# EAGLE library part TPS2546RTER (library Deegou_IC)
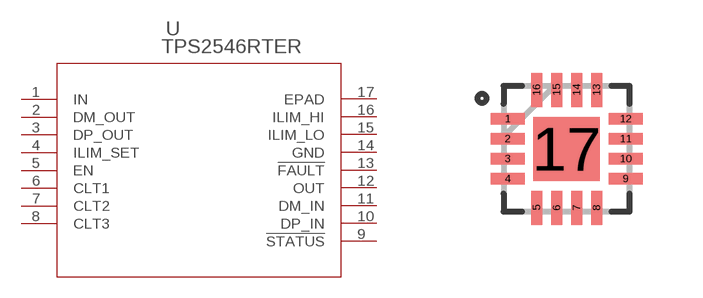
[diagram p14: symbol with the pads of RTE16_1P66X1P66; footprint RTE16_1P66X1P66]

Designator prefix U

## TPS2546RTER (MANUFACTURER_PART_NUMBER: TPS2546RTER; VENDOR: Texas Instruments)  [RTE16_1P66X1P66]
1  IN  in
2  DM_OUT  out
3  DP_OUT  out
4  ILIM_SET  in
5  EN  in
6  CLT1  in
7  CLT2  in
8  CLT3  in
9  !STATUS  out
10  DP_IN
11  DM_IN
12  OUT  out
13  !FAULT  out
14  GND  pwr
15  ILIM_LO  in
16  ILIM_HI  in
17  EPAD  pas

## Footprint RTE16_1P66X1P66 (pad centres in mm)
smd 0.85 x 0.28: 1 -1.475,0.75; 2 -1.475,0.25; 3 -1.475,-0.25; 4 -1.475,-0.75; 9 1.475,-0.75; 10 1.475,-0.25; 11 1.475,0.25; 12 1.475,0.75
smd 0.28 x 0.85: 5 -0.75,-1.475; 6 -0.25,-1.475; 7 0.25,-1.475; 8 0.75,-1.475; 13 0.75,1.475; 14 0.25,1.475; 15 -0.25,1.475; 16 -0.75,1.475
smd 1.66 x 1.6: 17 0,0